# EAGLE library part 74FCT16374 (library n64-rgb-dac)
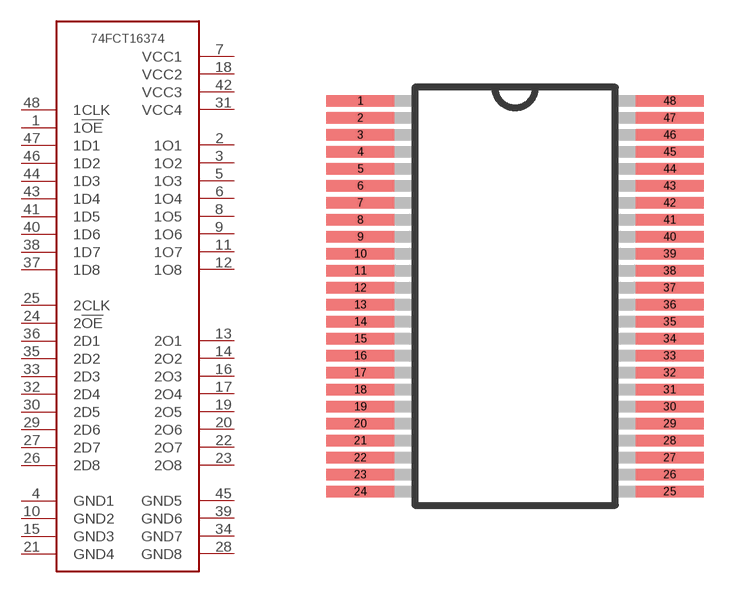
[diagram p0: symbol with the pads of TSSOP48-2; footprint TSSOP48-2]

Designator prefix IC

## 74FCT16374  [TSSOP48-2]
1  1!OE  in
2  1O1  out
3  1O2  out
4  GND1  sup
5  1O3  out
6  1O4  out
7  VCC1  pwr
8  1O5  out
9  1O6  out
10  GND2  sup
11  1O7  out
12  1O8  out
13  2O1  out
14  2O2  out
15  GND3  sup
16  2O3  out
17  2O4  out
18  VCC2  pwr
19  2O5  out
20  2O6  out
21  GND4  sup
22  2O7  out
23  2O8  out
24  2!OE  in
25  2CLK  in
26  2D8  in
27  2D7  in
28  GND8  sup
29  2D6  in
30  2D5  in
31  VCC4  pwr
32  2D4  in
33  2D3  in
34  GND7  sup
35  2D2  in
36  2D1  in
37  1D8  in
38  1D7  in
39  GND6  sup
40  1D6  in
41  1D5  in
42  VCC3  pwr
43  1D4  in
44  1D3  in
45  GND5  sup
46  1D2  in
47  1D1  in
48  1CLK  in

## Footprint TSSOP48-2 (pad centres in mm)
TSSOP48-2 Auto generated by make-symbol-device-package-bsdl.ulp Rev. 44
smd 2 x 0.35: 1 -4.55,5.75; 2 -4.55,5.25; 3 -4.55,4.75; 4 -4.55,4.25; 5 -4.55,3.75; 6 -4.55,3.25; 7 -4.55,2.75; 8 -4.55,2.25; 9 -4.55,1.75; 10 -4.55,1.25; 11 -4.55,0.75; 12 -4.55,0.25; 13 -4.55,-0.25; 14 -4.55,-0.75; 15 -4.55,-1.25; 16 -4.55,-1.75; 17 -4.55,-2.25; 18 -4.55,-2.75; 19 -4.55,-3.25; 20 -4.55,-3.75; 21 -4.55,-4.25; 22 -4.55,-4.75; 23 -4.55,-5.25; 24 -4.55,-5.75; 25 4.55,-5.75; 26 4.55,-5.25; 27 4.55,-4.75; 28 4.55,-4.25; 29 4.55,-3.75; 30 4.55,-3.25; 31 4.55,-2.75; 32 4.55,-2.25; 33 4.55,-1.75; 34 4.55,-1.25; 35 4.55,-0.75; 36 4.55,-0.25; 37 4.55,0.25; 38 4.55,0.75; 39 4.55,1.25; 40 4.55,1.75; 41 4.55,2.25; 42 4.55,2.75; 43 4.55,3.25; 44 4.55,3.75; 45 4.55,4.25; 46 4.55,4.75; 47 4.55,5.25; 48 4.55,5.75